# Altium schematic symbol library SN74AHCT1G14DBVR.SchLib: 1 symbol
Pins are listed as number, name and electrical type; pins without a type are passive.

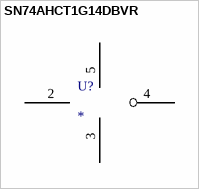
[diagram p0: symbol SN74AHCT1G14DBVR]

## SN74AHCT1G14DBVR
designator U?
pins: 2, 3 (power), 4, 5 (power)